# EAGLE library part CY7C68013-56 (library hs-ul)
FX2
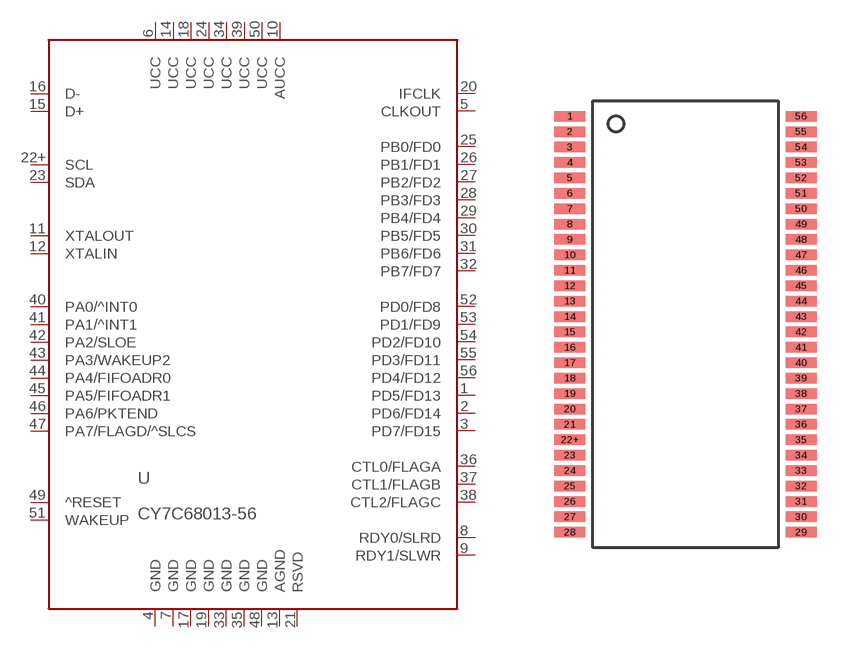
[diagram p5: symbol with the pads of SSOP56; footprint SSOP56]

Designator prefix U

## CY7C68013-56PVC  [SSOP56]
1  PD5/FD13
2  PD6/FD14
3  PD7/FD15
4  GND  pwr
5  CLKOUT  hiz
6  UCC  pwr
7  GND  pwr
8  RDY0/SLRD  in
9  RDY1/SLWR  in
10  AUCC  pwr
11  XTALOUT  out
12  XTALIN  in
13  AGND  pwr
14  UCC  pwr
15  D+
16  D-
17  GND  pwr
18  UCC  pwr
19  GND  pwr
20  IFCLK
21  RSVD  in
22+  SCL  oc
23  SDA  oc
24  UCC  pwr
25  PB0/FD0
26  PB1/FD1
27  PB2/FD2
28  PB3/FD3
29  PB4/FD4
30  PB5/FD5
31  PB6/FD6
32  PB7/FD7
33  GND  pwr
34  UCC  pwr
35  GND  pwr
36  CTL0/FLAGA  hiz
37  CTL1/FLAGB  hiz
38  CTL2/FLAGC  hiz
39  UCC  pwr
40  PA0/^INT0
41  PA1/^INT1
42  PA2/SLOE
43  PA3/WAKEUP2
44  PA4/FIFOADR0
45  PA5/FIFOADR1
46  PA6/PKTEND
47  PA7/FLAGD/^SLCS
48  GND  pwr
49  ^RESET  in
50  UCC  pwr
51  WAKEUP  in
52  PD0/FD8
53  PD1/FD9
54  PD2/FD10
55  PD3/FD11
56  PD4/FD12

## Footprint SSOP56 (pad centres in mm)
56-lead Shrunk Small Outline Package O56 Raster: 25 mil (0,65 mm)
smd 1.27 x 0.432: 1 -4.763,8.572; 2 -4.763,7.938; 3 -4.763,7.303; 4 -4.763,6.668; 5 -4.763,6.032; 6 -4.763,5.397; 7 -4.763,4.763; 8 -4.763,4.128; 9 -4.763,3.493; 10 -4.763,2.857; 11 -4.763,2.223; 12 -4.763,1.587; 13 -4.763,0.953; 14 -4.763,0.318; 15 -4.763,-0.318; 16 -4.763,-0.953; 17 -4.763,-1.587; 18 -4.763,-2.223; 19 -4.763,-2.857; 20 -4.763,-3.493; 21 -4.763,-4.128; 22+ -4.763,-4.763; 23 -4.763,-5.397; 24 -4.763,-6.032; 25 -4.763,-6.668; 26 -4.763,-7.303; 27 -4.763,-7.938; 28 -4.763,-8.572; 29 4.763,-8.572; 30 4.763,-7.938; 31 4.763,-7.303; 32 4.763,-6.668; 33 4.763,-6.032; 34 4.763,-5.397; 35 4.763,-4.763; 36 4.763,-4.128; 37 4.763,-3.493; 38 4.763,-2.857; 39 4.763,-2.223; 40 4.763,-1.587; 41 4.763,-0.953; 42 4.763,-0.318; 43 4.763,0.318; 44 4.763,0.953; 45 4.763,1.587; 46 4.763,2.223; 47 4.763,2.857; 48 4.763,3.493; 49 4.763,4.128; 50 4.763,4.763; 51 4.763,5.397; 52 4.763,6.032; 53 4.763,6.668; 54 4.763,7.303; 55 4.763,7.938; 56 4.763,8.572